# Altium footprint library SAMTEC-TST-110-01-X-D.PCBLIB: 1 footprints
Each footprint in its own frame and in the unit in brackets; x right, y up, seen from the top. Pads: shape width x height; smd on the part's side, far side on the other; paste and mask are expansions set on the pad; w line width, h text height; cw(c..) or ccw(c..) is an arc to the next point about the centre after c.
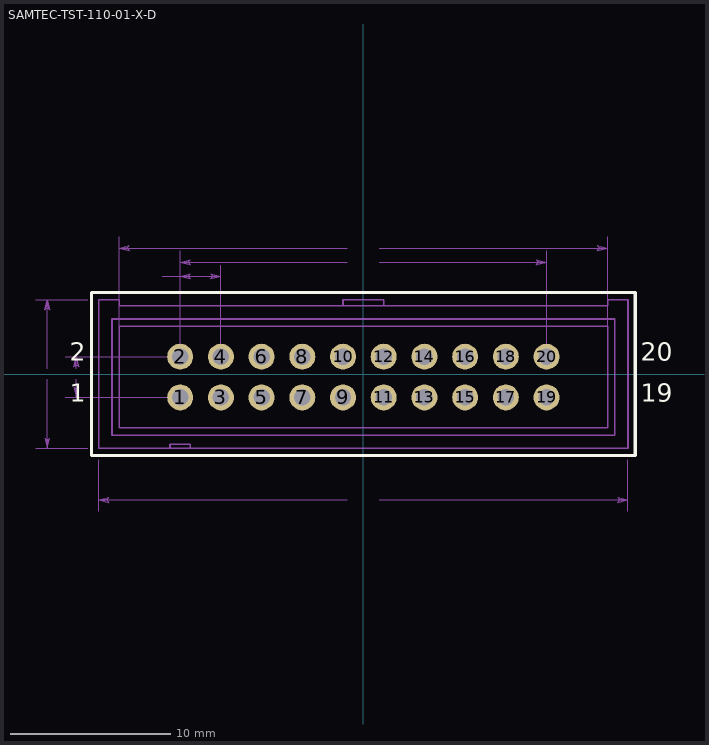
[diagram p0: the footprint, top view; thin cyan lines are the x and y axes]

## SAMTEC-TST-110-01-X-D [mm]
pads (20):
  round 1.62 / inner round 1.524 / far side round 1.62 hole 1.02: 1(-11.43,-1.46) 2(-11.43,1.08) 3(-8.89,-1.46) 4(-8.89,1.08) 5(-6.35,-1.46) 6(-6.35,1.08) 7(-3.81,-1.46) 8(-3.81,1.08) 9(-1.27,-1.46) 10(-1.27,1.08) 11(1.27,-1.46) 12(1.27,1.08) 13(3.81,-1.46) 14(3.81,1.08) 15(6.35,-1.46) 16(6.35,1.08) 17(8.89,-1.46) 18(8.89,1.08) 19(11.43,-1.46) 20(11.43,1.08)
Top Overlay:
  lines w0.2: -16.96,-5.086 -16.96,5.086 16.96,5.086 16.96,-5.086 -16.96,-5.086
  text "2" at -18.33,0.444 h1.97
  text "20" at 17.301,0.444 h1.97
  text "1" at -18.33,-2.096 h1.97
  text "19" at 17.301,-2.096 h1.97
Top Solder:
  circle w0: c11.43,1.08 r0.861
  circle w0: c11.43,-1.46 r0.861
  circle w0: c8.89,1.08 r0.861
  circle w0: c8.89,-1.46 r0.861
  circle w0: c6.35,1.08 r0.861
  circle w0: c6.35,-1.46 r0.861
  circle w0: c3.81,1.08 r0.861
  circle w0: c3.81,-1.46 r0.861
  circle w0: c1.27,1.08 r0.861
  circle w0: c1.27,-1.46 r0.861
  circle w0: c-1.27,1.08 r0.861
  circle w0: c-1.27,-1.46 r0.861
  circle w0: c-3.81,1.08 r0.861
  circle w0: c-3.81,-1.46 r0.861
  circle w0: c-6.35,1.08 r0.861
  circle w0: c-6.35,-1.46 r0.861
  circle w0: c-8.89,1.08 r0.861
  circle w0: c-8.89,-1.46 r0.861
  circle w0: c-11.43,1.08 r0.861
  circle w0: c-11.43,-1.46 r0.861
Bottom Solder:
  circle w0: c11.43,1.08 r0.861
  circle w0: c11.43,-1.46 r0.861
  circle w0: c8.89,1.08 r0.861
  circle w0: c8.89,-1.46 r0.861
  circle w0: c6.35,1.08 r0.861
  circle w0: c6.35,-1.46 r0.861
  circle w0: c3.81,1.08 r0.861
  circle w0: c3.81,-1.46 r0.861
  circle w0: c1.27,1.08 r0.861
  circle w0: c1.27,-1.46 r0.861
  circle w0: c-1.27,1.08 r0.861
  circle w0: c-1.27,-1.46 r0.861
  circle w0: c-3.81,1.08 r0.861
  circle w0: c-3.81,-1.46 r0.861
  circle w0: c-6.35,1.08 r0.861
  circle w0: c-6.35,-1.46 r0.861
  circle w0: c-8.89,1.08 r0.861
  circle w0: c-8.89,-1.46 r0.861
  circle w0: c-11.43,1.08 r0.861
  circle w0: c-11.43,-1.46 r0.861
Assembly Top:
  drawing of 162 lines, arcs and shapes, not listed
  text "20" at 17.301,0.444 h1.97
  text "19" at 17.301,-2.096 h1.97
  text "2" at -18.33,0.444 h1.97
  text "1" at -18.33,-2.096 h1.97
pDim:
  lines w0: -20.437,-4.636 -17.211,-4.636 ; -20.437,4.636 -17.211,4.636 ; -19.736,-0.318 -19.736,-4.636 ; -19.736,0.318 -19.736,4.636 ; -18.608,-1.46 -12.131,-1.46 ; -18.608,1.08 -12.131,1.08 ; -17.907,-0.318 -17.907,-1.46 ; -17.907,0.318 -17.907,1.08 ; -16.51,-8.562 -16.51,-5.337 ; -15.24,0.701 -15.24,8.562 ; -12.548,6.096 -11.43,6.096 ; -11.43,6.797 -11.43,1.781 -11.43,7.686 ; -8.89,1.781 -8.89,6.797 ; -0.991,-7.861 -16.51,-7.861 ; -0.991,6.985 -11.43,6.985 ; -0.991,7.861 -15.24,7.861 ; 0.991,-7.861 16.51,-7.861 ; 0.991,6.985 11.43,6.985 ; 0.991,7.861 15.24,7.861 ; 11.43,1.781 11.43,7.686 ; 15.24,0.701 15.24,8.562 ; 16.51,-8.562 16.51,-5.337 ; -19.895,-4 -19.815,-4.064 -19.736,-4.636 ; -19.895,-4 -19.736,-4.128 ; -19.895,-4 -19.736,-4.636 ; -19.736,-4.636 -19.736,-4.128 ; -19.736,-4.636 -19.656,-4.064 -19.736,-4.128 ; -19.736,-4.636 -19.577,-4 -19.736,-4.128 ; -19.736,4.128 -19.736,4.636 ; -19.736,4.128 -19.815,4.064 -19.736,4.636 ; -19.736,4.128 -19.577,4 ; -19.736,4.128 -19.895,4 -19.736,4.636 ; -19.736,4.636 -19.656,4.064 -19.577,4 ; -19.736,4.636 -19.577,4 ; -18.066,-0.826 -17.986,-0.889 -17.907,-1.46 ; -18.066,-0.826 -17.907,-0.952 ; -18.066,-0.826 -17.907,-1.46 ; -17.907,-1.46 -17.907,-0.952 ; -17.907,-1.46 -17.828,-0.889 -17.907,-0.952 ; -17.907,-1.46 -17.748,-0.826 -17.907,-0.952 ; -17.907,0.572 -17.907,1.08 ; -17.907,0.572 -17.986,0.508 -17.907,1.08 ; -17.907,0.572 -17.748,0.444 ; -17.907,0.572 -18.066,0.444 -17.907,1.08 ; -17.907,1.08 -17.828,0.508 -17.748,0.444 ; -17.907,1.08 -17.748,0.444 ; -16.51,-7.861 -15.938,-7.782 -15.875,-7.703 ; -16.51,-7.861 -16.002,-7.861 ; -16.51,-7.861 -15.938,-7.941 -16.002,-7.861 ; -16.51,-7.861 -15.875,-8.02 -16.002,-7.861 ; -16.51,-7.861 -15.875,-7.703 ; -16.002,-7.861 -15.875,-7.703 ; -15.24,7.861 -14.668,7.941 -14.605,8.02 ; -15.24,7.861 -14.732,7.861 ; -15.24,7.861 -14.668,7.782 -14.732,7.861 ; -15.24,7.861 -14.605,7.703 -14.732,7.861 ; -15.24,7.861 -14.605,8.02 ; -14.732,7.861 -14.605,8.02 ; -11.43,6.096 -8.89,6.096 ; -11.43,6.096 -10.858,6.175 -10.795,6.255 ; -11.43,6.096 -10.922,6.096 ; -11.43,6.096 -10.858,6.017 -10.922,6.096 ; -11.43,6.096 -10.795,5.937 -10.922,6.096 ; -11.43,6.096 -10.795,6.255 ; -11.43,6.985 -10.858,7.064 -10.795,7.144 ; -11.43,6.985 -10.922,6.985 ; -11.43,6.985 -10.858,6.906 -10.922,6.985 ; -11.43,6.985 -10.795,6.826 -10.922,6.985 ; -11.43,6.985 -10.795,7.144 ; -10.922,6.096 -10.795,6.255 ; -10.922,6.985 -10.795,7.144 ; -9.525,5.937 -9.462,6.017 -8.89,6.096 ; -9.525,5.937 -9.398,6.096 ; -9.525,5.937 -8.89,6.096 ; -9.398,6.096 -8.89,6.096 ; -9.398,6.096 -9.462,6.175 -8.89,6.096 ; -9.398,6.096 -9.525,6.255 -8.89,6.096 ; 10.795,6.826 10.858,6.906 11.43,6.985 ; 10.795,6.826 10.922,6.985 ; 10.795,6.826 11.43,6.985 ; 10.922,6.985 11.43,6.985 ; 10.922,6.985 10.858,7.064 11.43,6.985 ; 10.922,6.985 10.795,7.144 11.43,6.985 ; 14.605,7.703 14.668,7.782 15.24,7.861 ; 14.605,7.703 14.732,7.861 ; 14.605,7.703 15.24,7.861 ; 14.732,7.861 15.24,7.861 ; 14.732,7.861 14.668,7.941 15.24,7.861 ; 14.732,7.861 14.605,8.02 15.24,7.861 ; 15.875,-8.02 15.938,-7.941 16.51,-7.861 ; 15.875,-8.02 16.002,-7.861 ; 15.875,-8.02 16.51,-7.861 ; 16.002,-7.861 16.51,-7.861 ; 16.002,-7.861 15.938,-7.782 16.51,-7.861 ; 16.002,-7.861 15.875,-7.703 16.51,-7.861
  text "30.480" at -0.8,7.734 h0.39
  text "22.860" at -0.8,6.858 h0.39
  text "33.020" at -0.8,-7.988 h0.39
  text "2.540" at -14.059,5.969 h0.39
  text "9.271" at -20.396,-0.127 h0.39
  text "2.540" at -18.567,-0.127 h0.39
pCourtYard:
  lines w0.1: -16.96,-5.086 16.96,-5.086 16.96,5.086 -16.96,5.086 -16.96,-5.086
3D body "TST-110-01-G-D.stp": height 8.89, standoff -3.3, extent -16.51,-4.572 16.51,4.699